# Altium footprint library kwarc.PcbLib: 2 footprints
Each footprint in its own frame and in the unit in brackets; x right, y up, seen from the top. Pads: shape width x height; smd on the part's side, far side on the other; paste and mask are expansions set on the pad; w line width, h text height; cw(c..) or ccw(c..) is an arc to the next point about the centre after c.
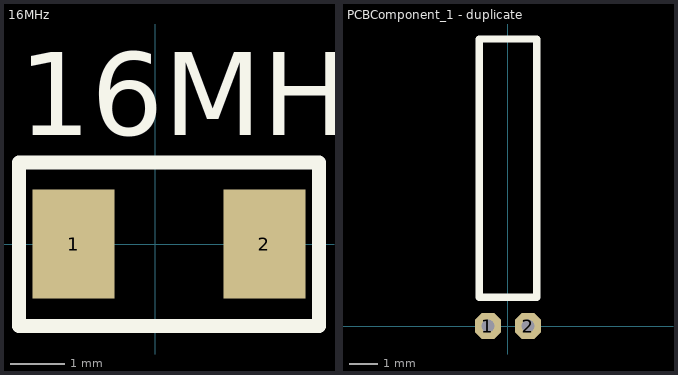
[diagram p0: the footprints below, top view; thin cyan lines are the x and y axes]

## 16MHz [mm]
pads (2):
  rect 1.5x2 smd: 1(-1.5,0) 2(2,0)
Top Overlay:
  lines w0.254: -2.5,-1.5 -2.5,1.5 3,1.5 3,-1.5 -2.5,-1.5
  text "16MHz" at -2.5,2 h1.52

## PCBComponent_1 - duplicate [mm]
pads (2):
  oct 0.9x0.9 hole 0.45: 1(-0.7,0) 2(0.7,0)
Top Overlay:
  lines w0.254: -1,1 1,1 1,10 -1,10 -1,1